# Altium schematic symbol library 691 701 500 0xx B.SchLib: 11 symbols
Pins are listed as number, name and electrical type; pins without a type are passive.

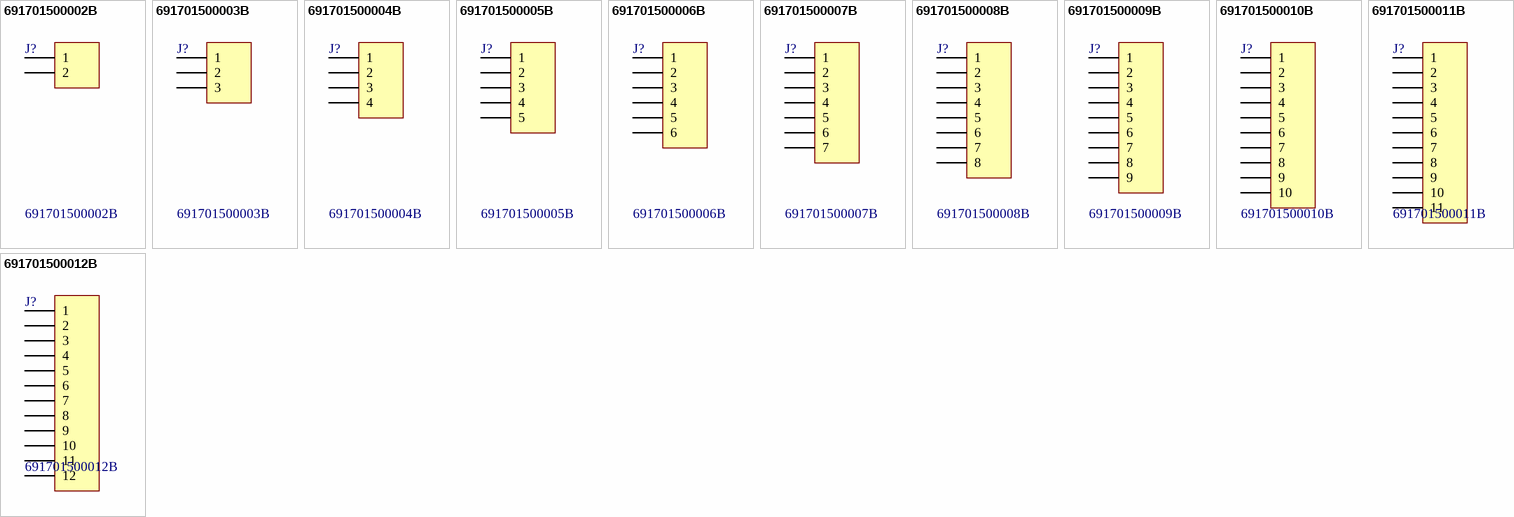
[diagram p0: symbols 691701500002B to 691701500012B]

## 691701500002B
designator J?
WR-TBL Terminal Blocks Serie 7015 B - 5.08 mm THR Type; Manufacturer: Würth Elektronik eiSos GmbH; ComponentLink1 Description: Manufacturer; ComponentLink2 Description: Datasheet; NoPins: 02; Created Date: 25 March 2014; partNo: 691701500002B; ComponentLink1URL: http://www.we-online.com; ComponentLink2URL: http://katalog.we-online.de/em/datasheet/6917015000xxB.pdf; Created by: Karrer Zheng; Value: 691701500002B
footprint 691701500002B (THR - 5,08mm - PCB Vertical Open - 02p)
pins: 1, 2

## 691701500003B
designator J?
WR-TBL Terminal Blocks Serie 7015 B - 5.08 mm THR Type; Manufacturer: Würth Elektronik eiSos GmbH; ComponentLink1 Description: Manufacturer; ComponentLink2 Description: Datasheet; NoPins: 03; Created Date: 25 March 2014; partNo: 691701500003B; ComponentLink1URL: http://www.we-online.com; ComponentLink2URL: http://katalog.we-online.de/em/datasheet/6917015000xxB.pdf; Created by: Karrer Zheng; Value: 691701500003B
footprint 691701500003B (THR - 5,08mm - PCB Vertical Open - 03p)
pins: 1, 2, 3

## 691701500004B
designator J?
WR-TBL Terminal Blocks Serie 7015 B - 5.08 mm THR Type; Manufacturer: Würth Elektronik eiSos GmbH; ComponentLink1 Description: Manufacturer; ComponentLink2 Description: Datasheet; NoPins: 04; Created Date: 25 March 2014; partNo: 691701500004B; ComponentLink1URL: http://www.we-online.com; ComponentLink2URL: http://katalog.we-online.de/em/datasheet/6917015000xxB.pdf; Created by: Karrer Zheng; Value: 691701500004B
footprint 691701500004B (THR - 5,08mm - PCB Vertical Open - 04p)
pins: 1, 2, 3, 4

## 691701500005B
designator J?
WR-TBL Terminal Blocks Serie 7015 B - 5.08 mm THR Type; Manufacturer: Würth Elektronik eiSos GmbH; ComponentLink1 Description: Manufacturer; ComponentLink2 Description: Datasheet; NoPins: 05; Created Date: 25 March 2014; partNo: 691701500005B; ComponentLink1URL: http://www.we-online.com; ComponentLink2URL: http://katalog.we-online.de/em/datasheet/6917015000xxB.pdf; Created by: Karrer Zheng; Value: 691701500005B
footprint 691701500005B (THR - 5,08mm - PCB Vertical Open - 05p)
pins: 1, 2, 3, 4, 5

## 691701500006B
designator J?
WR-TBL Terminal Blocks Serie 7015 B - 5.08 mm THR Type; Manufacturer: Würth Elektronik eiSos GmbH; ComponentLink1 Description: Manufacturer; ComponentLink2 Description: Datasheet; NoPins: 06; Created Date: 25 March 2014; partNo: 691701500006B; ComponentLink1URL: http://www.we-online.com; ComponentLink2URL: http://katalog.we-online.de/em/datasheet/6917015000xxB.pdf; Created by: Karrer Zheng; Value: 691701500006B
footprint 691701500006B (THR - 5,08mm - PCB Vertical Open - 06p)
pins: 1, 2, 3, 4, 5, 6

## 691701500007B
designator J?
WR-TBL Terminal Blocks Serie 7015 B - 5.08 mm THR Type; Manufacturer: Würth Elektronik eiSos GmbH; ComponentLink1 Description: Manufacturer; ComponentLink2 Description: Datasheet; NoPins: 07; Created Date: 25 March 2014; partNo: 691701500007B; ComponentLink1URL: http://www.we-online.com; ComponentLink2URL: http://katalog.we-online.de/em/datasheet/6917015000xxB.pdf; Created by: Karrer Zheng; Value: 691701500007B
footprint 691701500007B (THR - 5,08mm - PCB Vertical Open - 07p)
pins: 1, 2, 3, 4, 5, 6, 7

## 691701500008B
designator J?
WR-TBL Terminal Blocks Serie 7015 B - 5.08 mm THR Type; Manufacturer: Würth Elektronik eiSos GmbH; ComponentLink1 Description: Manufacturer; ComponentLink2 Description: Datasheet; NoPins: 08; Created Date: 25 March 2014; partNo: 691701500008B; ComponentLink1URL: http://www.we-online.com; ComponentLink2URL: http://katalog.we-online.de/em/datasheet/6917015000xxB.pdf; Created by: Karrer Zheng; Value: 691701500008B
footprint 691701500008B (THR - 5,08mm - PCB Vertical Open - 08p)
pins: 1, 2, 3, 4, 5, 6, 7, 8

## 691701500009B
designator J?
WR-TBL Terminal Blocks Serie 7015 B - 5.08 mm THR Type; Manufacturer: Würth Elektronik eiSos GmbH; ComponentLink1 Description: Manufacturer; ComponentLink2 Description: Datasheet; NoPins: 09; Created Date: 25 March 2014; partNo: 691701500009B; ComponentLink1URL: http://www.we-online.com; ComponentLink2URL: http://katalog.we-online.de/em/datasheet/6917015000xxB.pdf; Created by: Karrer Zheng; Value: 691701500009B
footprint 691701500009B (THR - 5,08mm - PCB Vertical Open - 09p)
pins: 1, 2, 3, 4, 5, 6, 7, 8, 9

## 691701500010B
designator J?
WR-TBL Terminal Blocks Serie 7015 B - 5.08 mm THR Type; Manufacturer: Würth Elektronik eiSos GmbH; ComponentLink1 Description: Manufacturer; ComponentLink2 Description: Datasheet; NoPins: 10; Created Date: 25 March 2014; partNo: 691701500010B; ComponentLink1URL: http://www.we-online.com; ComponentLink2URL: http://katalog.we-online.de/em/datasheet/6917015000xxB.pdf; Created by: Karrer Zheng; Value: 691701500010B
footprint 691701500010B (THR - 5,08mm - PCB Vertical Open - 10p)
pins: 1, 2, 3, 4, 5, 6, 7, 8, 9, 10

## 691701500011B
designator J?
WR-TBL Terminal Blocks Serie 7015 B - 5.08 mm THR Type; Manufacturer: Würth Elektronik eiSos GmbH; ComponentLink1 Description: Manufacturer; ComponentLink2 Description: Datasheet; NoPins: 11; Created Date: 25 March 2014; partNo: 691701500011B; ComponentLink1URL: http://www.we-online.com; ComponentLink2URL: http://katalog.we-online.de/em/datasheet/6917015000xxB.pdf; Created by: Karrer Zheng; Value: 691701500011B
footprint 691701500011B (THR - 5,08mm - PCB Vertical Open - 11p)
pins: 1, 2, 3, 4, 5, 6, 7, 8, 9, 10, 11

## 691701500012B
designator J?
WR-TBL Terminal Blocks Serie 7015 B - 5.08 mm THR Type; Manufacturer: Würth Elektronik eiSos GmbH; ComponentLink1 Description: Manufacturer; ComponentLink2 Description: Datasheet; NoPins: 12; Created Date: 25 March 2014; partNo: 691701500012B; ComponentLink1URL: http://www.we-online.com; ComponentLink2URL: http://katalog.we-online.de/em/datasheet/6917015000xxB.pdf; Created by: Karrer Zheng; Value: 691701500012B
footprint 691701500012B (THR - 5,08mm - PCB Vertical Open - 12p)
pins: 1, 2, 3, 4, 5, 6, 7, 8, 9, 10, 11, 12